# Altium footprint library SOIC254P680X230-4N.PcbLib: 1 footprints
Each footprint in its own frame and in the unit in brackets; x right, y up, seen from the top. Pads: shape width x height; smd on the part's side, far side on the other; paste and mask are expansions set on the pad; w line width, h text height; cw(c..) or ccw(c..) is an arc to the next point about the centre after c.
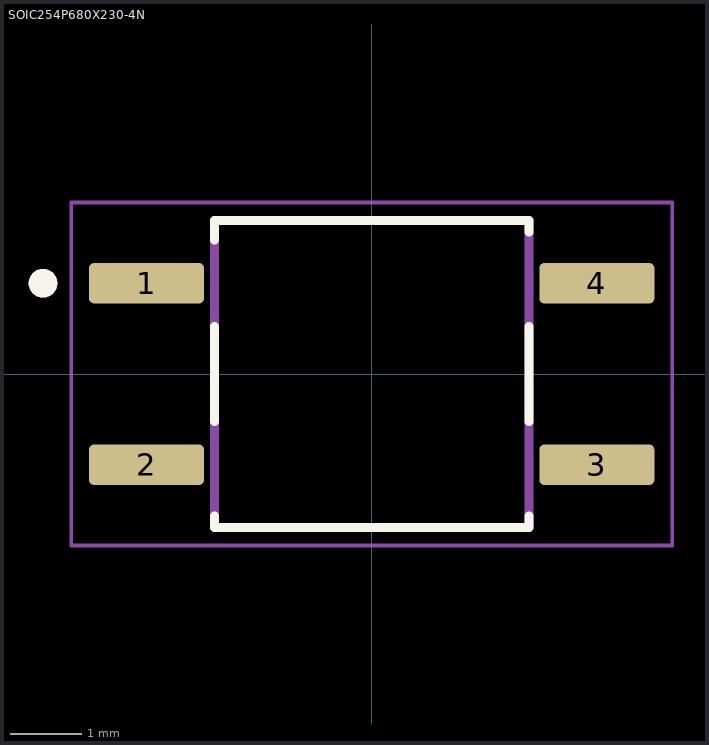
[diagram p0: the footprint, top view; thin cyan lines are the x and y axes]

## SOIC254P680X230-4N [mm]
height 2.3
pads (4):
  rrect25% 1.61x0.57 smd paste+0 mask+0.102: 1(-3.15,1.27) 2(-3.15,-1.27) 3(3.15,-1.27) 4(3.15,1.27)
Top Overlay:
  circle w0.2: c-4.6,1.27 r0.1
  lines w0.127: -2.2,-1.99 -2.2,-2.15 2.2,-2.15 2.2,-1.99 ; -2.2,-0.665 -2.2,0.665 ; -2.2,1.875 -2.2,2.15 2.2,2.15 2.2,1.99 ; 2.2,-0.665 2.2,0.665
Assembly Top:
  circle w0.2: c-4.6,1.27 r0.1
  lines w0.127: -2.2,-2.15 2.2,-2.15 2.2,2.15 -2.2,2.15 -2.2,-2.15
Courtyard Top:
  lines w0.05: -4.205,-2.4 -4.205,2.4 4.205,2.4 4.205,-2.4 -4.205,-2.4
3D body "step_temp.STEP": height 2.3, standoff 0, extent -3.4,-2.15 3.4,2.15